# Altium footprint library CiDLib.PcbLib: 54 footprints (part 3 of 4)
Each footprint in its own frame and in the unit in brackets; x right, y up, seen from the top. Pads: shape width x height; smd on the part's side, far side on the other; paste and mask are expansions set on the pad; w line width, h text height; cw(c..) or ccw(c..) is an arc to the next point about the centre after c.
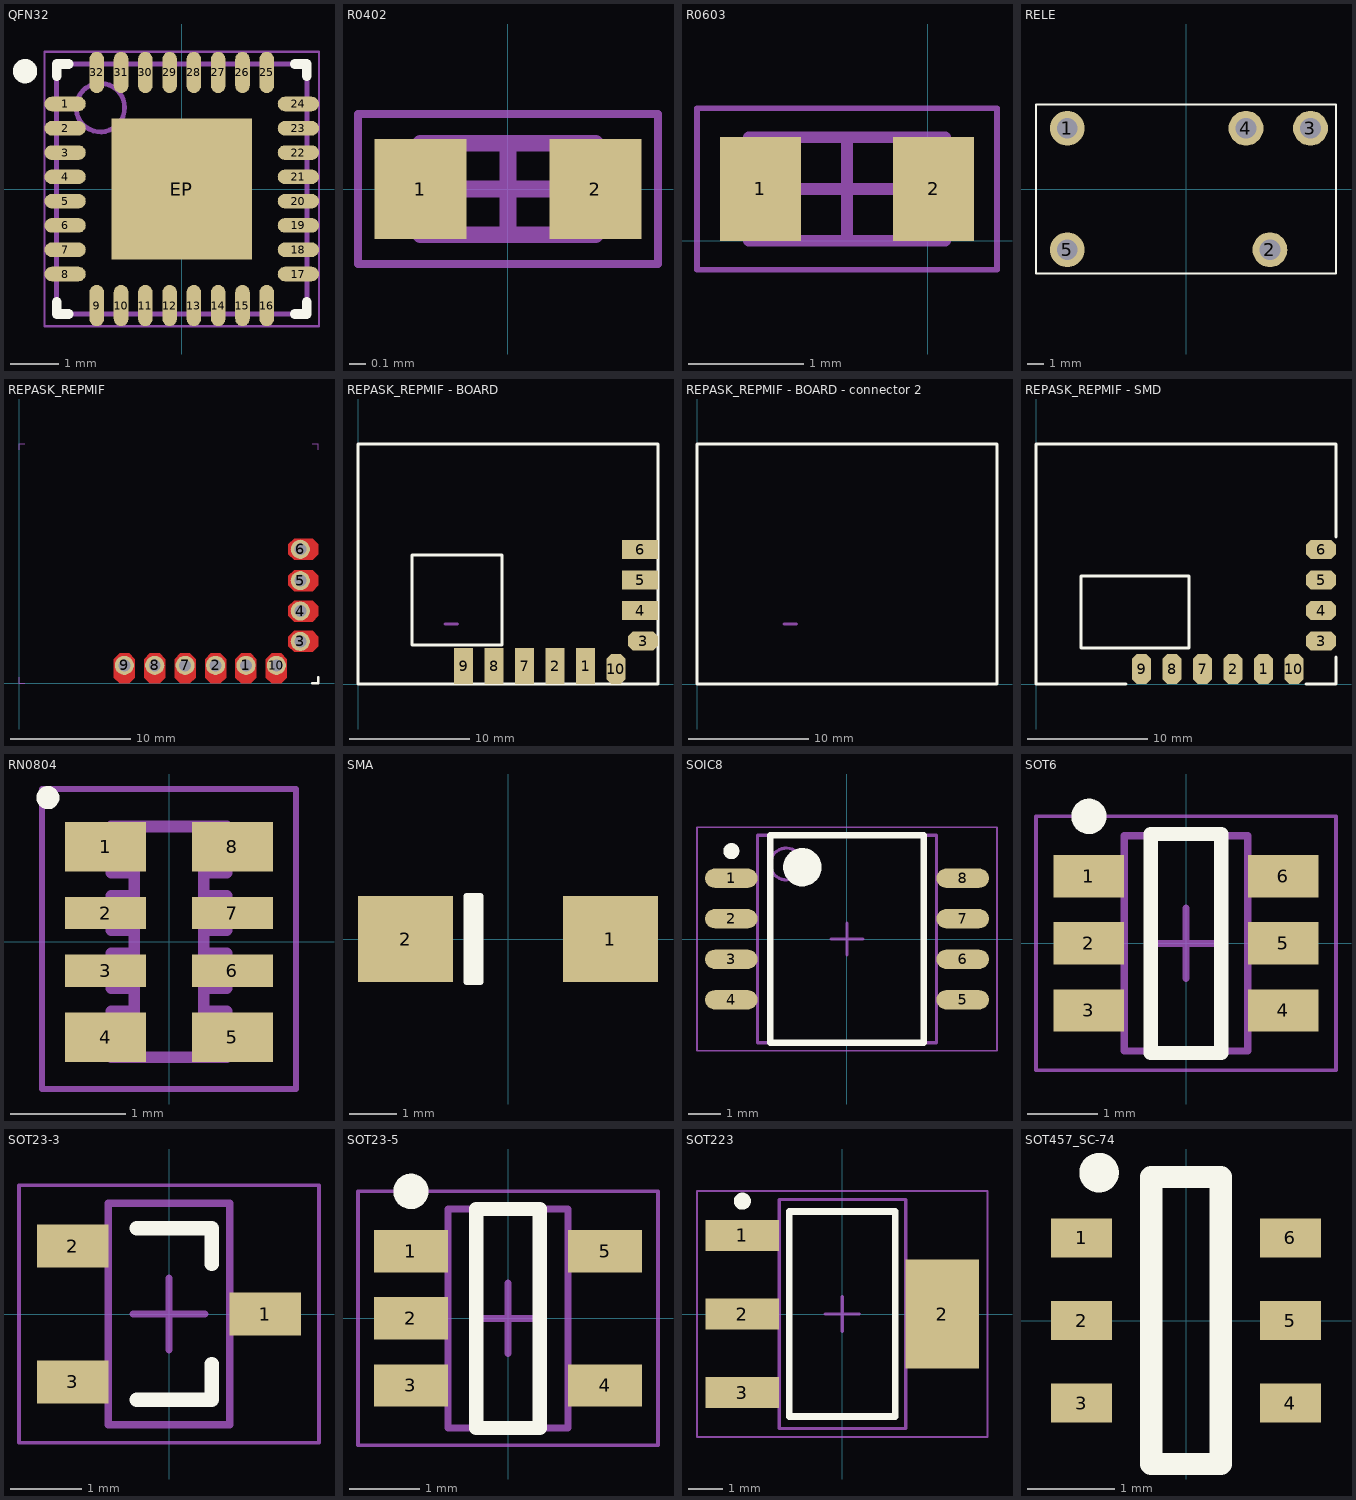
[diagram p2: the footprints below, top view; thin cyan lines are the x and y axes]

## QFN32 [mm]
height 1
pads (33):
  oval 0.85x0.3 smd: 1(-2.4,1.75) 2(-2.4,1.25) 3(-2.4,0.75) 4(-2.4,0.25) 5(-2.4,-0.25) 6(-2.4,-0.75) 7(-2.4,-1.25) 8(-2.4,-1.75) 17(2.4,-1.75) 18(2.4,-1.25) 19(2.4,-0.75) 20(2.4,-0.25) 21(2.4,0.25) 22(2.4,0.75) 23(2.4,1.25) 24(2.4,1.75)
  oval 0.3x0.85 smd: 9(-1.75,-2.4) 10(-1.25,-2.4) 11(-0.75,-2.4) 12(-0.25,-2.4) 13(0.25,-2.4) 14(0.75,-2.4) 15(1.25,-2.4) 16(1.75,-2.4) 25(1.75,2.4) 26(1.25,2.4) 27(0.75,2.4) 28(0.25,2.4) 29(-0.25,2.4) 30(-0.75,2.4) 31(-1.25,2.4) 32(-1.75,2.4)
  rect 2.9x2.9 smd: EP(0,0)
Top Overlay:
  circle w0.25: c-3.225,2.425 r0.125
  lines w0.2: -2.575,-2.325 -2.575,-2.575 -2.325,-2.575 ; -2.575,2.325 -2.575,2.575 -2.325,2.575 ; 2.325,-2.575 2.575,-2.575 2.575,-2.325 ; 2.325,2.575 2.575,2.575 2.575,2.325
Mechanical 13:
  circle w0.1: c-1.675,1.675 r0.5
  lines w0.1: -2.575,-2.575 -2.575,2.575 2.575,2.575 2.575,-2.575 -2.575,-2.575
Mechanical 15:
  lines w0.05: -2.825,-2.825 -2.825,2.825 2.825,2.825 2.825,-2.825 -2.825,-2.825
  lines w0.1: -0.5,0 0.5,0 ; 0,-0.5 0,0.5
3D body: height 1, standoff 0.05, extent -2.575,-2.575 2.575,2.575

## R0402 [mm] "Chip Resistor, 2-Leads, Body 1,00x0,50mm, IPC Medium Density"
height 0.45
pads (2):
  rect 0.55x0.6 smd: 1(-0.525,0) 2(0.525,0)
Mechanical 13:
  lines w0.1: -0.525,-0.275 -0.525,0.275 0.525,0.275 0.525,-0.275 -0.525,-0.275
Mechanical 15:
  lines w0.05: -0.9,-0.45 -0.9,0.45 0.9,0.45 0.9,-0.45 -0.9,-0.45
  lines w0.1: -0.275,0 0.275,0 ; 0,-0.275 0,0.275
3D body "User Library-RES_1005-0402.step": height 0.41, standoff 0, extent -0.575,-0.275 0.575,0.275

## R0603 [mm] "Chip Resistor, 2-Leads, Body 1.60x0.80mm, IPC Medium Density"
height 0.45
pads (2):
  rect 0.7x0.9 smd: 1(-1.45,0.45) 2(0.05,0.45)
Mechanical 13:
  lines w0.1: -1.55,0 -1.55,0.9 0.15,0.9 0.15,0 -1.55,0
Mechanical 15:
  lines w0.05: -2,-0.25 -2,1.15 0.6,1.15 0.6,-0.25 -2,-0.25
  lines w0.1: -1.15,0.45 -0.25,0.45 ; -0.7,0 -0.7,0.9
3D body: height 0.45, standoff 0, extent -1.3,0 -0.1,0.9
3D body: height 0.45, standoff 0, extent -1.55,0 -1.3,0.9
3D body: height 0.45, standoff 0, extent -0.1,0 0.15,0.9

## RELE [mil]
pads (5):
  round 86 hole 51.18: 1(-292.91,150) 2(207.09,-150) 3(307.09,150) 4(148.03,150) 5(-292.91,-150)
Top Overlay:
  lines w5: -370.08,-208.66 370.08,-208.66 370.08,208.66 -370.08,208.66 -370.08,-208.66
3D body: height 602.36, standoff 0, extent -370.06,-208.64 370.06,208.64

## REPASK_REPMIF [mm]
pads (10):
  round 1.6 hole 1: 1(18.96,1.5) 2(16.42,1.5) 3(23.5,3.5) 4(23.5,6.04) 5(23.5,8.58) 6(23.5,11.2) 7(13.88,1.5) 8(11.34,1.5) 9(8.8,1.5) 10(21.5,1.5)
Top Layer:
  region: 10.94,0 11.74,0 12.215,0.475 12.215,2.025 11.74,2.5 10.94,2.5 10.465,2.025 10.465,0.475
  region: 13.48,0 14.28,0 14.755,0.475 14.755,2.025 14.28,2.5 13.48,2.5 13.005,2.025 13.005,0.475
  region: 16.02,0 16.82,0 17.295,0.475 17.295,2.025 16.82,2.5 16.02,2.5 15.545,2.025 15.545,0.475
  region: 18.56,0 19.36,0 19.835,0.475 19.835,2.025 19.36,2.5 18.56,2.5 18.085,2.025 18.085,0.475
  region: 21.1,0 21.9,0 22.375,0.475 22.375,2.025 21.9,2.5 21.1,2.5 20.625,2.025 20.625,0.475
  region: 25,3.1 25,3.9 24.525,4.375 22.975,4.375 22.5,3.9 22.5,3.1 22.975,2.625 24.525,2.625
  region: 25,5.64 25,6.44 24.525,6.915 22.975,6.915 22.5,6.44 22.5,5.64 22.975,5.165 24.525,5.165
  region: 25,8.18 25,8.98 24.525,9.455 22.975,9.455 22.5,8.98 22.5,8.18 22.975,7.705 24.525,7.705
  region: 25,10.8 25,11.6 24.525,12.075 22.975,12.075 22.5,11.6 22.5,10.8 22.975,10.325 24.525,10.325
  region: 8.4,0 9.2,0 9.675,0.475 9.675,2.025 9.2,2.5 8.4,2.5 7.925,2.025 7.925,0.475
Top Overlay:
  lines w0.2: 24.5,0 25,0 25,0.5
Top Solder:
  region: 11.752,-0.063 12.253,0.438 12.252,2.062 11.777,2.537 10.903,2.538 10.403,2.038 10.403,0.463 10.927,-0.063
  region: 14.292,-0.063 14.793,0.438 14.792,2.062 14.317,2.537 13.443,2.538 12.943,2.038 12.943,0.463 13.467,-0.063
  region: 16.832,-0.063 17.333,0.438 17.332,2.062 16.857,2.537 15.983,2.538 15.483,2.038 15.483,0.463 16.007,-0.063
  region: 19.372,-0.063 19.873,0.438 19.872,2.062 19.397,2.537 18.523,2.538 18.023,2.038 18.023,0.463 18.547,-0.063
  region: 21.912,-0.063 22.413,0.438 22.412,2.062 21.937,2.537 21.063,2.538 20.563,2.038 20.563,0.463 21.087,-0.063
  region: 25.063,3.912 24.562,4.413 22.938,4.412 22.463,3.937 22.462,3.063 22.962,2.563 24.537,2.563 25.063,3.087
  region: 25.063,6.452 24.562,6.953 22.938,6.952 22.463,6.477 22.462,5.603 22.962,5.103 24.537,5.103 25.063,5.627
  region: 25.063,8.992 24.562,9.493 22.938,9.492 22.463,9.017 22.462,8.143 22.962,7.643 24.537,7.643 25.063,8.167
  region: 25.063,11.612 24.562,12.113 22.938,12.112 22.463,11.637 22.462,10.763 22.962,10.263 24.537,10.263 25.063,10.787
  region: 9.212,-0.063 9.713,0.438 9.712,2.062 9.237,2.537 8.363,2.538 7.863,2.038 7.863,0.463 8.387,-0.063
Mechanical 15:
  lines w0.05: 0,0.5 0,0 0.5,0 ; 0,19.5 0,20 0.5,20 ; 24.5,20 25,20 25,19.5
3D body "REPASK_v3.0.step": height 9.7, standoff 2.6, extent -0.1,0.1 24.9,20.1
3D body: height 2.5, standoff 0, extent 7.642,0.037 24.892,12.287

## REPASK_REPMIF - BOARD [mm]
pads (10):
  rect 1.6x3 smd mask+0.051: 1(18.96,1.5) 2(16.42,1.5) 7(13.88,1.5) 8(11.34,1.5) 9(8.8,1.5)
  oct 2.5x1.6 smd mask+0.051: 3(23.75,3.58)
  rect 3x1.6 smd mask+0.051: 4(23.5,6.12) 5(23.5,8.66) 6(23.5,11.2)
  oct 1.6x2.5 smd mask+0.051: 10(21.5,1.25)
Top Overlay:
  lines w0.254: 7,0 25,0 ; 25,13 25,0 ; 25,0 0,0 0,20 25,20 25,0 ; 4.51,3.25 12.01,3.25 12.01,10.75 4.51,10.75 4.51,3.25
Mechanical 1:
  lines w0.254: 7.25,5 8.3,5
3D body: height 1.57, standoff 0, extent 0,0 25,20
3D body "SW3dPS-Molex - 2-Pin Header with Lock (0.100in pitch).STEP": height 3.23, standoff -10.99, extent 5.75,1.825 10.83,8.175
3D body "User Library-Header1x2.STEP": height 2.19, standoff -8.79, extent 18.21,-7.54 23.29,-5

## REPASK_REPMIF - BOARD - connector 2 [mm]
Top Overlay:
  lines w0.254: 7,0 25,0 ; 25,13 25,0 ; 25,0 25,20 0,20 0,0 25,0
Mechanical 1:
  lines w0.254: 7.25,5 8.3,5
3D body: height 1.57, standoff 0, extent 0,0 25,20
3D body "B2B-PH-K-S.STEP": height 3.4, standoff -6, extent 5.31,3.25 11.21,7.75

## REPASK_REPMIF - SMD [mm]
pads (10):
  oct 1.6x2.5 smd mask+0.051: 1(18.96,1.25) 2(16.42,1.25) 7(13.88,1.25) 8(11.34,1.25) 9(8.8,1.25) 10(21.5,1.25)
  oct 2.5x1.6 smd mask+0.051: 3(23.75,3.58) 4(23.75,6.12) 5(23.75,8.66) 6(23.75,11.2)
Top Overlay:
  lines w0.254: 7.5,0 0,0 0,20 25,20 25,12.25 ; 22.5,0 25,0 25,2.25 ; 3.75,3 3.75,9 12.75,9 12.75,3 3.75,3

## RN0804 [mm] "Chip Array, ConvexS, 8-Leads, Pitch 0,50mm,  Body 2,00x1,00mm,  IPC Medium Density"
height 0.6
pads (8):
  rect 0.7x0.43 smd: 1(-0.55,0.825) 4(-0.55,-0.825) 5(0.55,-0.825) 8(0.55,0.825)
  rect 0.7x0.28 smd: 2(-0.55,0.25) 3(-0.55,-0.25) 6(0.55,-0.25) 7(0.55,0.25)
Top Overlay:
  circle w0.1: c-1.05,1.25 r0.05
Top Solder:
  region: -0.8,0.44 -0.8,0.06 -0.2,0.06 -0.2,0.44
  region: 0.2,0.44 0.2,0.06 0.8,0.06 0.8,0.44
  region: -0.8,1.09 -0.8,0.56 -0.2,0.56 -0.2,1.09
  region: 0.2,-0.06 0.2,-0.44 0.8,-0.44 0.8,-0.06
  region: -0.8,-0.06 -0.8,-0.44 -0.2,-0.44 -0.2,-0.06
  region: -0.8,-0.56 -0.8,-1.09 -0.2,-1.09 -0.2,-0.56
  region: 0.2,1.09 0.2,0.56 0.8,0.56 0.8,1.09
  region: 0.2,-0.56 0.2,-1.09 0.8,-1.09 0.8,-0.56
Mechanical 15:
  lines w0.05: -1.1,-1.275 -1.1,1.325 1.1,1.325 1.1,-1.275 -1.1,-1.275
Mechanical 16:
  lines w0.1: -0.5,-1 0.5,-1 0.5,-0.6 0.3,-0.6 0.3,-0.4 0.5,-0.4 0.5,-0.1 0.3,-0.1 0.3,0.1 0.5,0.1 0.5,0.4 0.3,0.4 0.3,0.6 0.5,0.6 0.5,1 -0.5,1 -0.5,0.6 -0.3,0.6 -0.3,0.4 -0.5,0.4 -0.5,0.1 -0.3,0.1 -0.3,-0.1 -0.5,-0.1 -0.5,-0.4 -0.3,-0.4 -0.3,-0.6 -0.5,-0.6 -0.5,-1

## SMA [mm]
pads (2):
  rect 2x1.8 smd: 1(2.15,0) 2(-2.15,0)
Top Overlay:
  lines w0.127: -0.875,-0.9 -0.875,0.9 ; -0.875,-0.9 -0.575,-0.9 ; -0.875,-0.9 -0.775,-0.8 -0.775,0.8 -0.875,0.9 ; -0.875,0.9 -0.575,0.9 ; -0.575,-0.9 -0.575,0.9 ; -0.575,-0.9 -0.675,-0.8 -0.675,0.8 -0.575,0.9
3D body "User Library-DO-214AC SMA.step": height 2.45, standoff 0.05, extent -2.6,-1.3 2.6,1.3

## SOIC8 [mm] "SOIC, 8-Leads, Body 6,20x5,30mm, Pitch 1,27mm, IPC Medium Density"
height 2
pads (8):
  oval 1.65x0.6 smd: 1(-3.625,1.905) 2(-3.625,0.635) 3(-3.625,-0.635) 4(-3.625,-1.905) 5(3.625,-1.905) 6(3.625,-0.635) 7(3.625,0.635) 8(3.625,1.905)
Top Overlay:
  circle w0.25: c-3.625,2.755 r0.125
  circle w0.6: c-1.4,2.25 r0.3
  lines w0.2: -2.4,-3.25 -2.4,3.25 2.4,3.25 2.4,-3.25 -2.4,-3.25
Mechanical 13:
  circle w0.1: c-1.9,2.35 r0.5
  lines w0.1: -2.8,-3.25 -2.8,3.25 2.8,3.25 2.8,-3.25 -2.8,-3.25
Mechanical 15:
  lines w0.05: -4.7,-3.5 -4.7,3.5 4.7,3.5 4.7,-3.5 -4.7,-3.5
  lines w0.1: -0.5,0 0.5,0 ; 0,-0.5 0,0.5
3D body: height 2, standoff 0.1, extent -2.8,-3.25 2.8,3.25

## SOT6 [mm] "SOT23, 6-Leads, Body 2,90x2,80mm, Pitch 0,95mm, IPC Medium Density"
height 1.1
pads (6):
  rect 1x0.6 smd: 1(-1.375,0.95) 2(-1.375,0) 3(-1.375,-0.95) 4(1.375,-0.95) 5(1.375,0) 6(1.375,0.95)
Top Overlay:
  circle w0.25: c-1.375,1.8 r0.125
  lines w0.2: -0.5,-1.55 0.5,-1.55 0.5,1.55 -0.5,1.55 -0.5,-1.55
Mechanical 13:
  lines w0.1: -0.875,-1.525 -0.875,1.525 0.875,1.525 0.875,-1.525 -0.875,-1.525
Mechanical 15:
  lines w0.05: -2.125,-1.8 -2.125,1.8 2.125,1.8 2.125,-1.8 -2.125,-1.8
  lines w0.1: -0.5,0 0.5,0 ; 0,-0.5 0,0.5
3D body: height 1.1, standoff 0.1, extent -0.875,-1.525 0.875,1.525

## SOT23-3 [mm]
height 1.2
pads (3):
  rect 1x0.6 smd: 1(1.35,0) 2(-1.35,0.95) 3(-1.35,-0.95)
Top Overlay:
  lines w0.2: -0.45,-1.2 0.6,-1.2 0.6,-0.7 ; -0.45,1.2 0.6,1.2 0.6,0.7
Mechanical 13:
  lines w0.1: -0.85,-1.55 -0.85,1.55 0.85,1.55 0.85,-1.55 -0.85,-1.55
Mechanical 15:
  lines w0.05: -2.1,-1.8 2.1,-1.8 2.1,1.8 -2.1,1.8 -2.1,-1.8
  lines w0.1: -0.5,0 0.5,0 ; 0,-0.5 0,0.5
3D body "CircuitWorks-SOT-23.step": height 1.1, standoff 0, extent -1.25,-1.5 1.25,1.5

## SOT23-5 [mm]
height 1.2
pads (5):
  rect 1.05x0.6 smd: 1(-1.375,0.95) 2(-1.375,0) 3(-1.375,-0.95) 4(1.375,-0.95) 5(1.375,0.95)
Top Overlay:
  circle w0.25: c-1.375,1.8 r0.125
  lines w0.2: -0.45,-1.55 0.45,-1.55 0.45,1.55 -0.45,1.55 -0.45,-1.55
Mechanical 13:
  lines w0.1: -0.85,-1.55 -0.85,1.55 0.85,1.55 0.85,-1.55 -0.85,-1.55
Mechanical 15:
  lines w0.05: -2.125,-1.8 -2.125,1.8 2.125,1.8 2.125,-1.8 -2.125,-1.8
  lines w0.1: -0.5,0 0.5,0 ; 0,-0.5 0,0.5
3D body: height 1.2, standoff 0.1, extent -0.85,-1.55 0.85,1.55

## SOT223 [mm] "SOT223, 4-Leads, Body 6,50x7,00mm (avg), Pitch 2,30mm, IPC Medium Density"
height 1.7
pads (4):
  rect 2.15x0.9 smd: 1(-2.925,2.3) 2(-2.925,0) 3(-2.925,-2.3)
  rect 2.15x3.2 smd: 2(2.925,0)
Top Overlay:
  circle w0.25: c-2.925,3.3 r0.125
  lines w0.2: -1.55,-3 1.55,-3 1.55,3 -1.55,3 -1.55,-3
Mechanical 13:
  lines w0.1: -1.85,-3.35 1.85,-3.35 1.85,3.35 -1.85,3.35 -1.85,-3.35
Mechanical 15:
  lines w0.05: -4.25,-3.6 4.25,-3.6 4.25,3.6 -4.25,3.6 -4.25,-3.6
  lines w0.1: -0.5,0 0.5,0 ; 0,-0.5 0,0.5
3D body "User Library-SOT-223-1.step": height 1.65, standoff 0, extent -3.5,-3.25 3.5,3.25

## SOT457_SC-74 [mm]
pads (6):
  rect 0.7x0.45 smd: 1(-1.2,0.95) 2(-1.2,0) 3(-1.2,-0.95) 4(1.2,-0.95) 5(1.2,0) 6(1.2,0.95)
Top Overlay:
  circle w0.254: c-1,1.7 r0.1
  lines w0.254: -0.4,-1.65 -0.4,1.65 0.4,1.65 0.4,-1.65 -0.4,-1.65
3D body: height 1.1, standoff 0, extent -0.7,-1.7 0.7,1.7